# Altium footprint library TE Connectivity.PcbLib: 14 footprints
Each footprint in its own frame and in the unit in brackets; x right, y up, seen from the top. Pads: shape width x height; smd on the part's side, far side on the other; paste and mask are expansions set on the pad; w line width, h text height; cw(c..) or ccw(c..) is an arc to the next point about the centre after c.
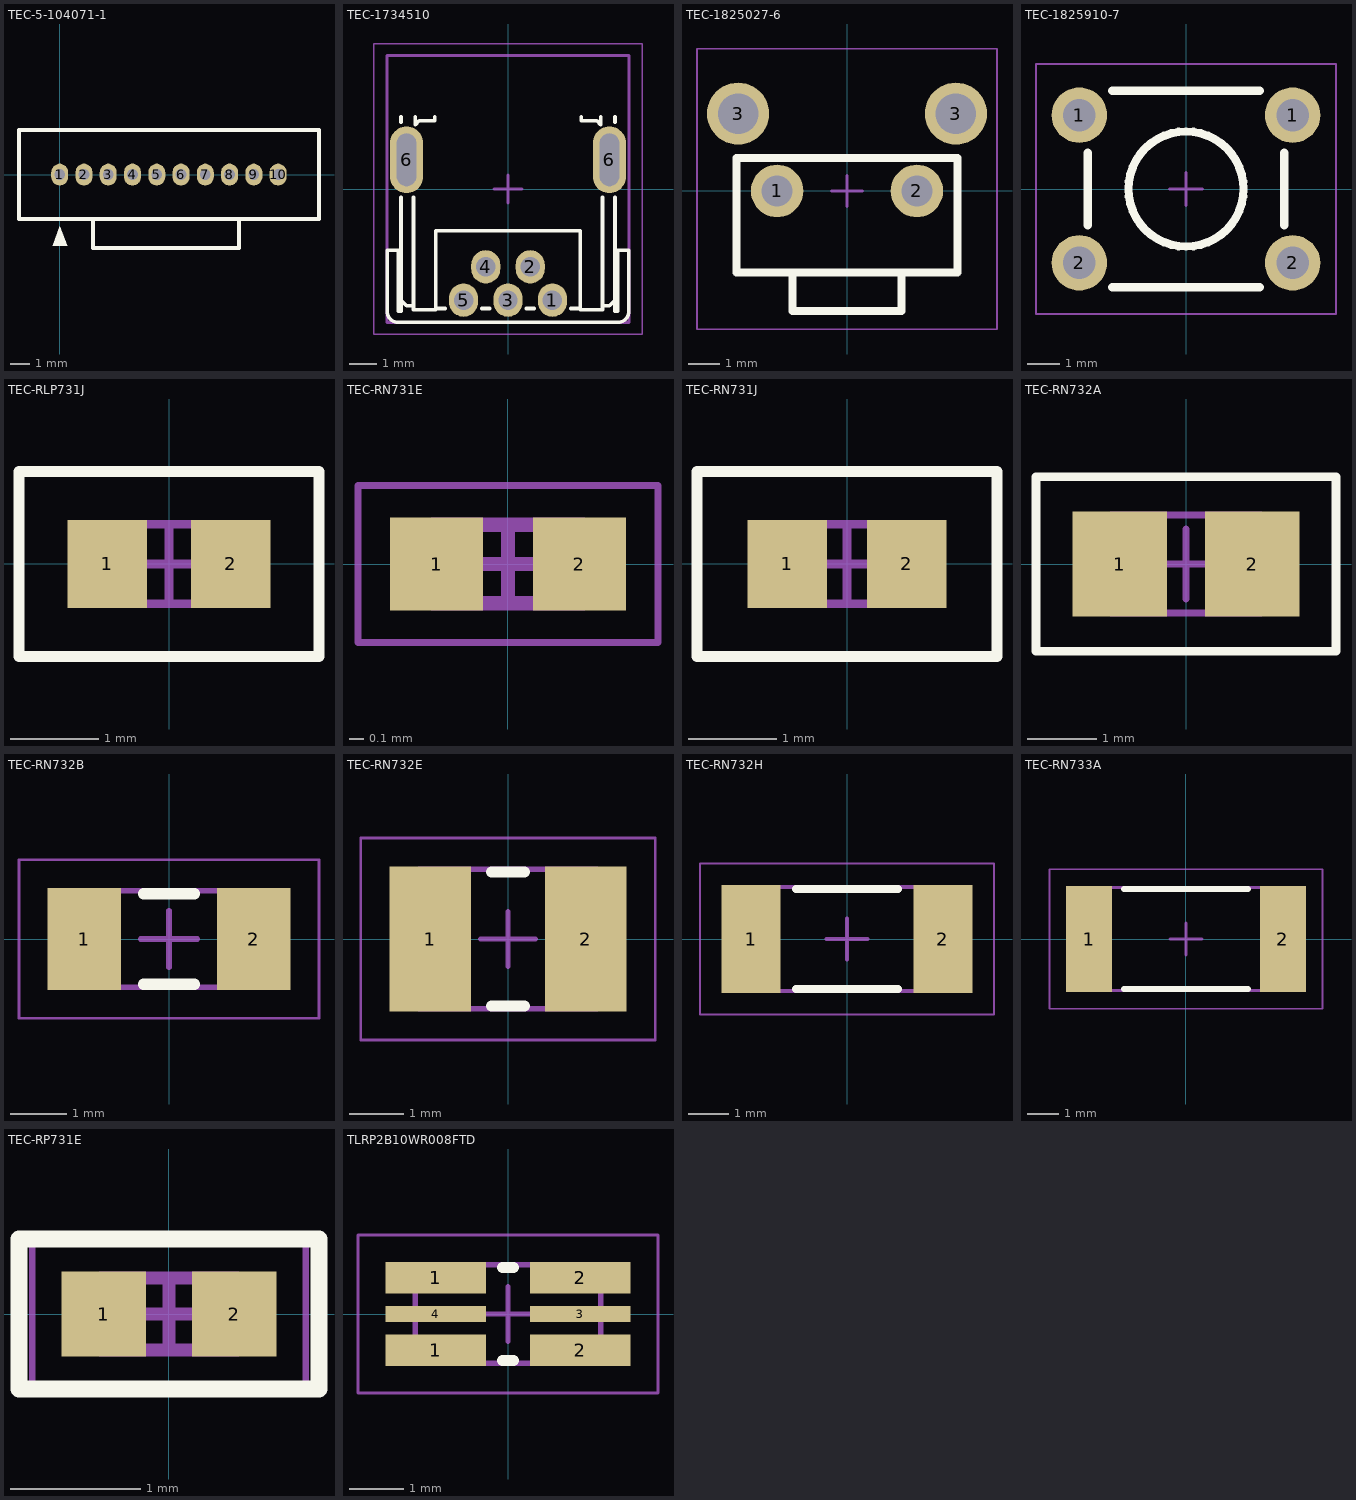
[diagram p0: the footprints below, top view; thin cyan lines are the x and y axes]

## TEC-5-104071-1 [mil]
height 390.16
pads (10):
  oval 35x45 hole 22.01: 1(0,0) 2(50,0) 3(100,0) 4(150,0) 5(200,0) 6(250,0) 7(300,0) 8(350,0) 9(400,0) 10(450,0)
Top Overlay:
  region: 0.36,-106.29 -14.64,-146.29 15.36,-146.29
  lines w7.99: 68.9,-91.73 68.9,-151.57 369.29,-151.57 369.29,-91.73 ; -83.86,-91.73 534.25,-91.73 534.25,92.13 -83.86,92.13 -83.86,-91.73
3D body "c-5-104071-1-t-3d.stp": height 390.16, standoff -100, extent -147.05,-151.58 597.05,92.13

## TEC-1734510 [mm] "USB Mini Receptacle with SUS304 Steel and PBT Plastic"
height 4.09
pads (7):
  oval 1.05x1.2 hole 0.7: 1(1.6,-4) 2(0.8,-2.8) 3(0,-4) 4(-0.8,-2.8) 5(-1.6,-4)
  oval 1.2x2.4 hole 0.7 slot 1.9 at 90 deg: 6(-3.65,1.05) 6(3.65,1.05)
Top Overlay:
  lines w0.127: -3.85,-0.3 -3.85,-4 ; -3.85,2.4 -3.85,2.6 ; -3.4,-4.2 -3.65,-4.2 -3.85,-4 ; -3.4,-0.3 -3.4,-4.35 -2.6,-4.35 -2.6,-4.3 ; -3.33,2.6 -3.33,2.32 -3.2,2.45 -2.63,2.45 -2.63,2.6 ; -2.25,-4.3 -2.6,-4.3 ; -0.95,-4.3 -0.65,-4.3 ; 0.65,-4.3 0.95,-4.3 ; 2.25,-4.3 2.6,-4.3 ; 2.63,2.6 2.63,2.45 3.2,2.45 3.33,2.32 3.33,2.6 ; 3.4,-4.2 3.65,-4.2 3.85,-4 ; 3.4,-0.3 3.4,-4.35 2.6,-4.35 2.6,-4.3 ; 3.85,-0.3 3.85,-4 ; 3.85,2.4 3.85,2.6 ; -3.85,-4 -3.85,-4.4 -3.95,-4.4 -3.95,-2.2 -4.35,-2.2 -4.35,-4.4 ccw(c-3.95,-4.4) -3.95,-4.8 3.95,-4.8 ccw(c3.95,-4.4) 4.35,-4.4 4.35,-2.2 3.95,-2.2 3.95,-4.4 3.85,-4.4 3.85,-4 ; -2.6,-4.3 -2.6,-1.5 2.6,-1.5 2.6,-4.3
Mechanical 13:
  lines w0.1: -4.35,-4.8 4.35,-4.8 4.35,4.8 -4.35,4.8 -4.35,-4.8
Mechanical 15:
  lines w0.05: -4.825,-5.225 -4.825,5.225 4.825,5.225 4.825,-5.225 -4.825,-5.225
  lines w0.1: -0.5,0 0.5,0 ; 0,-0.5 0,0.5
Drill Drawing:
  lines w0.254: -5.397,2.8 -4.763,2.8 ; -4.127,2.8 -3.492,2.8 ; -2.857,2.8 -2.222,2.8 ; -1.587,2.8 -0.953,2.8 ; -0.318,2.8 0.318,2.8 ; 0.953,2.8 1.587,2.8 ; 2.222,2.8 2.857,2.8 ; 3.492,2.8 4.127,2.8 ; 4.763,2.8 5.397,2.8
  text "BOARD EDGE" at -4.826,3.302 h1
3D body "c-1734510-1-c-3d.stp": height 4.09, standoff -2.85, extent -4.35,-4.8 4.35,4.8

## TEC-1825027-6 [mm] "Tactile Switch SPST-NO Side Actuated Through Hole, Right Angle"
height 7.01
pads (4):
  round 1.69 hole 0.99: 1(-2.25,0) 2(2.25,0)
  round 2 hole 1.3: 3(-3.505,2.49) 3(3.505,2.49)
Top Overlay:
  lines w0.254: -1.755,-2.62 -1.755,-3.864 1.755,-3.864 1.755,-2.62 ; -3.556,-2.62 -3.556,1.06 3.556,1.06 3.556,-2.62 -3.556,-2.62
Mechanical 15:
  lines w0.05: -4.826,-4.445 4.826,-4.445 4.826,4.572 -4.826,4.572 -4.826,-4.445
  lines w0.1: -0.5,0 0.5,0 ; 0,-0.5 0,0.5
3D body "TEC-1825027-6.stp": height 7.01, standoff -3.51, extent -4.203,-3.864 4.204,3.997

## TEC-1825910-7 [mm] "Tactile Switch SPST-NO Top Actuated Through Hole"
height 5
pads (4):
  round 1.69 hole 0.99: 1(-3.25,2.25) 1(3.25,2.25) 2(-3.25,-2.25) 2(3.25,-2.25)
Top Overlay:
  circle w0.254: c0,0 r1.755
  lines w0.254: -2.995,-1.1 -2.995,1.1 ; -2.25,-2.995 2.25,-2.995 ; -2.25,2.995 2.25,2.995 ; 2.995,-1.1 2.995,1.1
Mechanical 15:
  lines w0.05: -4.572,-3.81 -4.572,3.81 4.572,3.81 4.572,-3.81 -4.572,-3.81
  lines w0.1: -0.5,0 0.5,0 ; 0,-0.5 0,0.5
3D body "TEC-1825910-7.stp": height 5, standoff -3.51, extent -3.9,-2.995 3.9,2.995

## TEC-RLP731J [mm] "Chip Resistor, 2-Leads, Body 1.60x0.80mm, IPC Low Density"
height 0.55
pads (2):
  rect 0.9x1 smd: 1(-0.7,0) 2(0.7,0)
Top Overlay:
  lines w0.127: -1.7,-1.05 -1.7,1.05 1.7,1.05 1.7,-1.05 -1.7,-1.05
Mechanical 13:
  lines w0.1: -0.85,-0.45 -0.85,0.45 0.85,0.45 0.85,-0.45 -0.85,-0.45
Mechanical 15:
  lines w0.05: -1.7,-1.05 1.7,-1.05 1.7,1.05 -1.7,1.05 -1.7,-1.05
  lines w0.1: -0.45,0 0.45,0 ; 0,-0.45 0,0.45
3D body "TEC-RLP731J.step": height 0.55, standoff 0, extent -0.85,-0.45 0.85,0.45

## TEC-RN731E [mm] "Chip Resistor, 2-Leads, Body 1.00x0.50mm, IPC Low Density"
height 0.35
pads (2):
  rect 0.65x0.65 smd: 1(-0.5,0) 2(0.5,0)
Mechanical 13:
  lines w0.1: -0.525,-0.275 -0.525,0.275 0.525,0.275 0.525,-0.275 -0.525,-0.275
Mechanical 15:
  lines w0.05: -1.05,-0.55 -1.05,0.55 1.05,0.55 1.05,-0.55 -1.05,-0.55
  lines w0.1: -0.275,0 0.275,0 ; 0,-0.275 0,0.275
3D body: height 0.35, standoff 0, extent -0.325,-0.275 0.325,0.275
3D body: height 0.35, standoff 0, extent -0.525,-0.275 -0.325,0.275
3D body: height 0.35, standoff 0, extent 0.325,-0.275 0.525,0.275

## TEC-RN731J [mm] "Chip Resistor, 2-Leads, Body 1.55x0.80mm, IPC Low Density"
height 0.55
pads (2):
  rect 0.9x1 smd: 1(-0.675,0) 2(0.675,0)
Top Overlay:
  lines w0.127: -1.7,-1.05 1.7,-1.05 1.7,1.05 -1.7,1.05 -1.7,-1.05
Mechanical 13:
  lines w0.1: -0.825,-0.45 0.825,-0.45 0.825,0.45 -0.825,0.45 -0.825,-0.45
Mechanical 15:
  lines w0.05: -1.7,-1.05 -1.7,1.05 1.7,1.05 1.7,-1.05 -1.7,-1.05
  lines w0.1: -0.45,0 0.45,0 ; 0,-0.45 0,0.45
3D body: height 0.55, standoff 0, extent 0.525,-0.45 0.825,0.45
3D body: height 0.55, standoff 0, extent -0.825,-0.45 -0.525,0.45
3D body: height 0.55, standoff 0, extent -0.525,-0.45 0.525,0.45

## TEC-RN732A [mm] "Chip Resistor, 2-Leads, Body 2.00x1.25mm, IPC Low Density"
height 0.65
pads (2):
  rect 1.35x1.5 smd: 1(-0.95,0) 2(0.95,0)
Top Overlay:
  lines w0.127: -2.15,-1.25 -2.15,1.25 2.15,1.25 2.15,-1.25 -2.15,-1.25
Mechanical 13:
  lines w0.1: -1.075,-0.7 -1.075,0.7 1.075,0.7 1.075,-0.7 -1.075,-0.7
Mechanical 15:
  lines w0.05: -2.15,-1.25 2.15,-1.25 2.15,1.25 -2.15,1.25 -2.15,-1.25
  lines w0.1: -0.5,0 0.5,0 ; 0,-0.5 0,0.5
3D body: height 0.65, standoff 0, extent -0.675,-0.7 0.675,0.7
3D body: height 0.65, standoff 0, extent -1.075,-0.7 -0.675,0.7
3D body: height 0.65, standoff 0, extent 0.675,-0.7 1.075,0.7

## TEC-RN732B [mm] "Chip Resistor, 2-Leads, Body 3.05x1.55mm, IPC Low Density"
height 0.65
pads (2):
  rect 1.3x1.8 smd: 1(-1.5,0) 2(1.5,0)
Top Overlay:
  lines w0.2: -0.45,-0.8 0.45,-0.8 ; -0.45,0.8 0.45,0.8
Mechanical 13:
  lines w0.1: -1.6,-0.85 1.6,-0.85 1.6,0.85 -1.6,0.85 -1.6,-0.85
Mechanical 15:
  lines w0.05: -2.65,-1.4 2.65,-1.4 2.65,1.4 -2.65,1.4 -2.65,-1.4
  lines w0.1: -0.5,0 0.5,0 ; 0,-0.5 0,0.5
3D body: height 0.65, standoff 0, extent 1.25,-0.85 1.6,0.85
3D body: height 0.65, standoff 0, extent -1.6,-0.85 -1.25,0.85
3D body: height 0.65, standoff 0, extent -1.25,-0.85 1.25,0.85

## TEC-RN732E [mm] "Chip Resistor, 2-Leads, Body 3.10x2.40mm, IPC Low Density"
height 0.65
pads (2):
  rect 1.5x2.65 smd: 1(-1.425,0) 2(1.425,0)
Top Overlay:
  lines w0.2: -0.3,-1.225 0.3,-1.225 ; -0.3,1.225 0.3,1.225
Mechanical 13:
  lines w0.1: -1.625,-1.275 1.625,-1.275 1.625,1.275 -1.625,1.275 -1.625,-1.275
Mechanical 15:
  lines w0.05: -2.7,-1.85 2.7,-1.85 2.7,1.85 -2.7,1.85 -2.7,-1.85
  lines w0.1: -0.5,0 0.5,0 ; 0,-0.5 0,0.5
3D body: height 0.65, standoff 0, extent 1.075,-1.275 1.625,1.275
3D body: height 0.65, standoff 0, extent -1.625,-1.275 -1.075,1.275
3D body: height 0.65, standoff 0, extent -1.075,-1.275 1.075,1.275

## TEC-RN732H [mm] "Chip Resistor, 2-Leads, Body 4.90x2.40mm, IPC Low Density"
height 0.65
pads (2):
  rect 1.45x2.65 smd: 1(-2.35,0) 2(2.35,0)
Top Overlay:
  lines w0.2: -1.25,-1.225 1.25,-1.225 ; -1.25,1.225 1.25,1.225
Mechanical 13:
  lines w0.1: -2.525,-1.275 -2.525,1.275 2.525,1.275 2.525,-1.275 -2.525,-1.275
Mechanical 15:
  lines w0.05: -3.6,-1.85 -3.6,1.85 3.6,1.85 3.6,-1.85 -3.6,-1.85
  lines w0.1: -0.5,0 0.5,0 ; 0,-0.5 0,0.5
3D body: height 0.65, standoff 0, extent -2.025,-1.275 2.025,1.275
3D body: height 0.65, standoff 0, extent -2.525,-1.275 -2.025,1.275
3D body: height 0.65, standoff 0, extent 2.025,-1.275 2.525,1.275

## TEC-RN733A [mm] "Chip Resistor, 2-Leads, Body 6.30x3.10mm, IPC Low Density"
height 0.65
pads (2):
  rect 1.45x3.35 smd: 1(-3.05,0) 2(3.05,0)
Top Overlay:
  lines w0.2: -1.95,-1.575 1.95,-1.575 ; -1.95,1.575 1.95,1.575
Mechanical 13:
  lines w0.1: -3.225,-1.625 3.225,-1.625 3.225,1.625 -3.225,1.625 -3.225,-1.625
Mechanical 15:
  lines w0.05: -4.3,-2.2 4.3,-2.2 4.3,2.2 -4.3,2.2 -4.3,-2.2
  lines w0.1: -0.5,0 0.5,0 ; 0,-0.5 0,0.5
3D body: height 0.65, standoff 0, extent 2.725,-1.625 3.225,1.625
3D body: height 0.65, standoff 0, extent -3.225,-1.625 -2.725,1.625
3D body: height 0.65, standoff 0, extent -2.725,-1.625 2.725,1.625

## TEC-RP731E [mm] "Chip Resistor, 2-Leads, Body 1.00x0.50mm, IPC Low Density"
height 0.35
pads (2):
  rect 0.65x0.65 smd: 1(-0.5,0) 2(0.5,0)
Top Overlay:
  lines w0.127: -1.15,-0.575 1.15,-0.575 1.15,0.575 -1.15,0.575 -1.15,-0.575
Top Assembly:
  lines w0.1: -0.525,-0.275 -0.525,0.275 0.525,0.275 0.525,-0.275 -0.525,-0.275
Top Courtyard:
  lines w0.05: -1.05,-0.55 -1.05,0.55 1.05,0.55 1.05,-0.55 -1.05,-0.55
  lines w0.1: -0.275,0 0.275,0 ; 0,-0.275 0,0.275
3D body "TEC-RP731E.step": height 0.35, standoff 0, extent -0.525,-0.275 0.525,0.275

## TLRP2B10WR008FTD [mm]
pads (6):
  rect 1.85x0.57 smd: 1(-1.325,-0.665) 1(-1.325,0.665) 2(1.325,-0.665) 2(1.325,0.665)
  rect 1.85x0.285 smd: 3(1.325,0) 4(-1.325,0)
Top Overlay:
  lines w0.2: -0.1,-0.85 0.1,-0.85 ; -0.1,0.85 0.1,0.85
Top 3D Body:
  lines w0.05: -2.75,-1.45 -2.75,1.45 2.75,1.45 2.75,-1.45 -2.75,-1.45
  lines w0.1: -0.5,0 0.5,0 ; 0,-0.5 0,0.5
Top Courtyard:
  lines w0.1: -1.7,-0.9 -1.7,0.9 1.7,0.9 1.7,-0.9 -1.7,-0.9
3D body "RESC3216X08M.step": height 0.75, standoff 0, extent -1.7,-0.9 1.7,0.9